# Altium footprint library SMA座子.PcbLib: 2 footprints
Each footprint in its own frame and in the unit in brackets; x right, y up, seen from the top. Pads: shape width x height; smd on the part's side, far side on the other; paste and mask are expansions set on the pad; w line width, h text height; cw(c..) or ccw(c..) is an arc to the next point about the centre after c.
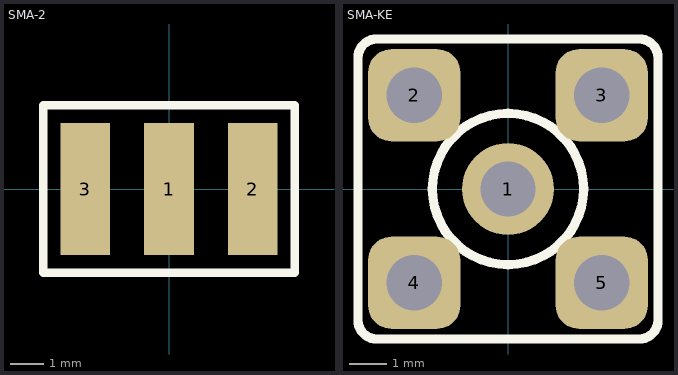
[diagram p0: the footprints below, top view; thin cyan lines are the x and y axes]

## SMA-2 [mm]
pads (3):
  rect 1.5x4 smd: 1(0,0)
  rect 1.5x4 all layers, no hole: 2(2.54,0) 3(-2.54,0)
Top Overlay:
  lines w0.254: -3.81,-2.54 3.81,-2.54 3.81,2.54 -3.81,2.54 -3.81,-2.286 -3.81,-2.54
3D body: height 3.2, standoff -2.85, extent -3,-11.886 3,1.714

## SMA-KE [mm]
pads (5):
  round 2.5 hole 1.5: 1(0,0)
  rrect50% 2.5x2.5 hole 1.5: 2(-2.54,2.54) 3(2.54,2.54) 4(-2.54,-2.54) 5(2.54,-2.54)
Top Overlay:
  circle w0.254: c0,0 r2.048
  lines w0.2: 4.064,-3.556 4.064,-3.556 ; 4.064,-3.556 4.064,-3.556
  lines w0.254: 3.556,4.064 cw(c3.556,3.556) 4.064,3.556 4.064,-3.556 cw(c3.556,-3.556) 3.556,-4.064 -3.556,-4.064 cw(c-3.556,-3.556) -4.064,-3.556 -4.064,3.556 cw(c-3.556,3.556) -3.556,4.064 3.556,4.064 ; 3.556,4.064 3.556,4.064
3D body: height 9.53, standoff -3.94, extent -3.5,-3.5 3.5,3.5